# EAGLE library part PS_CALEX-MOUNTING-BOARD (library 1A-meinLib)
CALEX Mounting Board
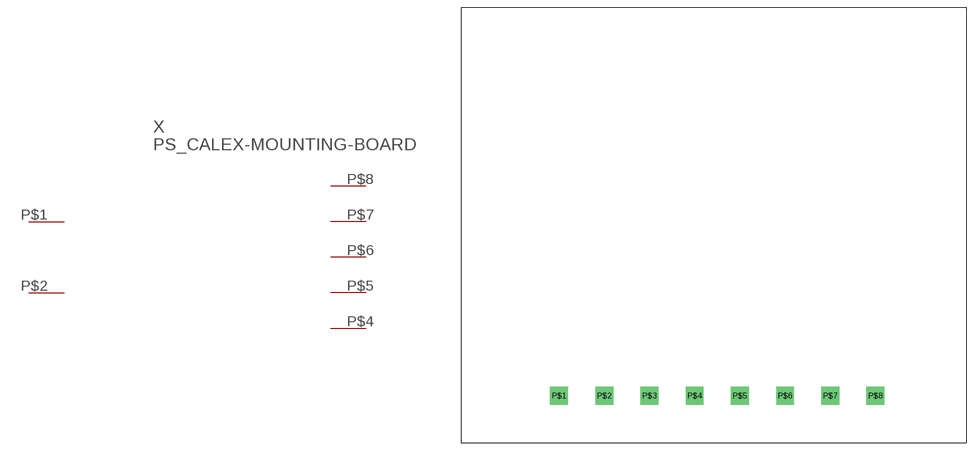
[diagram p86: symbol with the pads of PS_CALEX3.15.5.230_PRINT; footprint PS_CALEX3.15.5.230_PRINT]

Designator prefix X

## PS_CALEX-MOUNTING-BOARD  [PS_CALEX3.15.5.230_PRINT]
P$1  AC1  pwr
P$2  AC2  pwr
P$4  +5V  pwr
P$5  +5VCMN  pwr
P$6  -15V  pwr
P$7  15VCMN  pwr
P$8  +15V  pwr

## Footprint PS_CALEX3.15.5.230_PRINT (pad centres in mm)
drill 2.8 square: P$1 -34.29,-30.48; P$2 -24.638,-30.48; P$3 -14.986,-30.48; P$4 -5.334,-30.48; P$5 4.318,-30.48; P$6 13.97,-30.48; P$7 23.622,-30.48; P$8 33.274,-30.48